# Altium schematic symbol library SN74LVC2G240YZPR.Schlib: 1 symbol
Pins are listed as number, name and electrical type; pins without a type are passive.

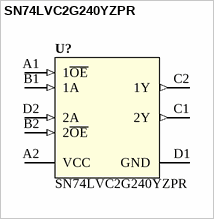
[diagram p0: symbol SN74LVC2G240YZPR]

## SN74LVC2G240YZPR
designator U?
Dual Buffer Driver With 3-State Outputs
pins: A1 1~{OE} (in), A2 VCC (power), B1 1A (in), B2 2~{OE} (in), C1 2Y (out), C2 1Y (out), D1 GND (power), D2 2A (in)